# Altium schematic symbol library Schematic Library.SchLib: 9 symbols
Pins are listed as number, name and electrical type; pins without a type are passive.

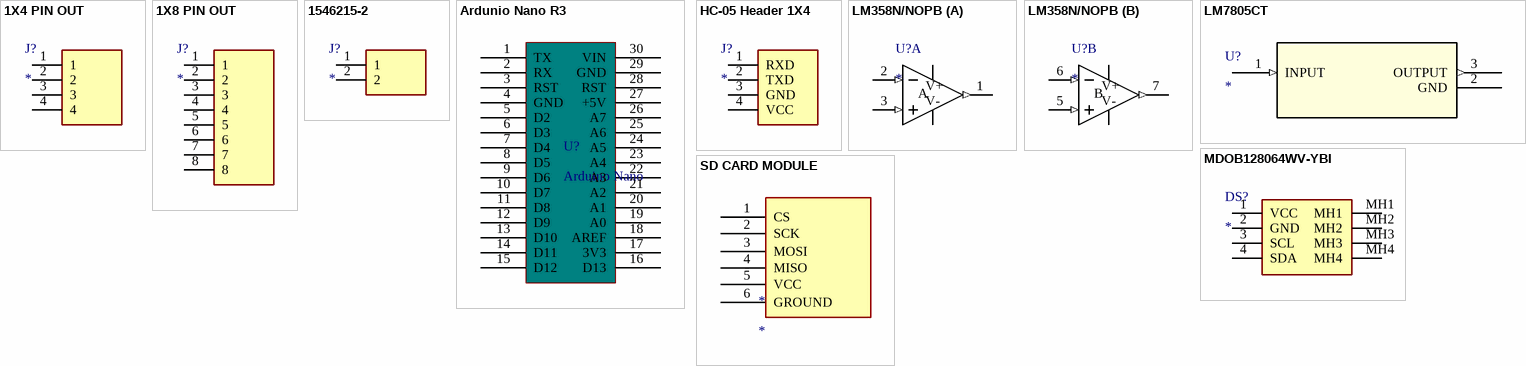
[diagram p0: symbols 1X4 PIN OUT to SD CARD MODULE]

## 1X4 PIN OUT
designator J?
Connector; Manufacturer_Name: Molex; Manufacturer_Part_Number: 0022032041; Datasheet Link: http://www.molex.com/pdm_docs/sd/022032041_sd.pdf; Height: 11.55mm; Mouser Part Number: N/A; Mouser Price/Stock: https://www.mouser.co.uk/ProductDetail/Molex/0022032041?qs=PBcRNPEHKsrt5pJfEqGMHQ%3D%3D; Arrow Part Number: 0022032041; Arrow Price/Stock: https://www.arrow.com/en/products/0022032041/molex?region=europe
footprint 1X4 PIN OUT
pins: 1, 2, 3, 4

## 1X8 PIN OUT
designator J?
Connector; Manufacturer_Name: Molex; Datasheet Link: https://www.molex.com/pdm_docs/sd/901200128_sd.pdf; Height: 9.45mm; Manufacturer_Part_Number: MOLEX
footprint HDRV8W65P0X254_1X8_2010X249X945P
pins: 1, 2, 3, 4, 5, 6, 7, 8

## 1546215-2
designator J?
Connector; Manufacturer_Name: TE Connectivity; Manufacturer_Part_Number: 1546215-2; Description: Fixed Terminal Blocks TERMI-BLOK PCB MOUNT; Datasheet Link: https://www.te.com/commerce/DocumentDelivery/DDEController?Action=srchrtrv&DocNm=1546215&DocType=Customer+Drawing&DocLang=English; Height: 10.3mm; Mouser Part Number: 571-1546215-2; Mouser Price/Stock: https://www.mouser.co.uk/ProductDetail/TE-Connectivity/1546215-2?qs=Lxq28tKK6BPmJFoAOY7Ljw%3D%3D; Arrow Part Number: 1546215-2; Arrow Price/Stock: https://www.arrow.com/en/products/1546215-2/te-connectivity?region=nac
footprint 15462152
pins: 1, 2

## Ardunio Nano R3
designator U?, comment Arduino Nano
footprint Ardunio Nano R3
pins: 1 TX, 2 RX, 3 RST, 4 GND, 5 D2, 6 D3, 7 D4, 8 D5, 9 D6, 10 D7, 11 D8, 12 D9, 13 D10, 14 D11, 15 D12, 16 D13, 17 3V3, 18 AREF, 19 A0, 20 A1, 21 A2, 22 A3, 23 A4, 24 A5, 25 A6, 26 A7, 27 +5V, 28 RST, 29 GND, 30 VIN

## HC-05 Header 1X4
designator J?
Bluetooth Module Header; Manufacturer_Name: Molex; Manufacturer_Part_Number: 0022032041; Datasheet Link: http://www.molex.com/pdm_docs/sd/022032041_sd.pdf; Height: 11.55mm; Mouser Part Number: N/A; Mouser Price/Stock: https://www.mouser.co.uk/ProductDetail/Molex/0022032041?qs=PBcRNPEHKsrt5pJfEqGMHQ%3D%3D; Arrow Part Number: 0022032041; Arrow Price/Stock: https://www.arrow.com/en/products/0022032041/molex?region=europe
footprint HC-05 Header 1X4
pins: 1 RXD, 2 TXD, 3 GND, 4 VCC

## LM358N/NOPB
designator U?
OP AMP; Mfr_Name: Texas Instruments; PartNumber: LM358AN; Manufacturer: NationalSemiconductor; Characteristics: LM358ANLowPowerDualOpAmp; CompType: OpAmpIC; TaMin_C: 00; TaMax_C: 700; ComponentLink1DescBC: LM358Datasheet; ComponentLink2DescA4: LM358WebPage; ComponentLink3DescAC: N08EPackageWebPage; SymbolVersion: 2008-07-09; PackageDescription: 8LeadPlasticDIP; PackageReference: N08E_L; RoHS: O; ComponentLink1URL: http//wwwnationalcom/ds/LM/LM358pdf; ComponentLink2URL: http//wwwnationalcom/pf/LM/LM358html; ComponentLink3URL: http//wwwnationalcom/packaging/folders/n08ehtml; Version: B1608; LatestRevisionDate: 2009-03-16; LatestRevisionNote: MassUpdate; Publisher: NationalSemiconductor; Published: 2009-03-16
footprint N08E
part A pins: 1 OUT (out), 2 IN- (in), 3 IN+ (in)
part B pins: 5 IN+ (in), 6 IN- (in), 7 OUT (out)
part A text: V+; A; V-
part B text: V+; B; V-

## LM7805CT
designator U?
Voltage Divider; Mfr_Name: onsemi; RefDes: RefDes; Type: Type
footprint TO220-3_ONS
pins: 1 INPUT (in), 2 GND (power), 3 OUTPUT (out)

## MDOB128064WV-YBI
designator DS?
Display; Manufacturer_Name: MIDAS; Manufacturer_Part_Number: MDOB128064WV-YBI; Datasheet Link: https://www.midasdisplays.com/getattachment/fada0345-3815-4682-b4f7-385dd3f5cb09/specification; Height: 4.52mm
footprint MDOB128064WVYBI
pins: 1 VCC, 2 GND, 3 SCL, 4 SDA, MH1, MH2, MH3, MH4

## SD CARD MODULE
designator *
pins: 1 CS, 2 SCK, 3 MOSI, 4 MISO, 5 VCC, 6 GROUND